# EAGLE library part L202121MS02QE (library SHC)
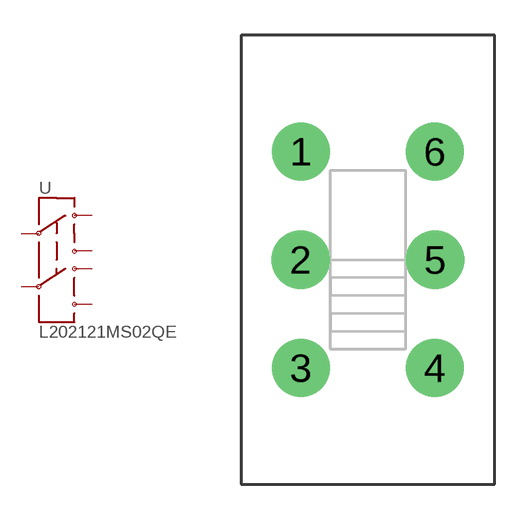
[diagram p48: symbol with the pads of L202-DPDT; footprint L202-DPDT]

Designator prefix -

## L202121MS02QE  [L202-DPDT]
1  O1
2  I1
3  O2
4  O4
5  I2
6  O3

## Footprint L202-DPDT (pad centres in mm)
drill 1.65: 1 -2.85,4.6; 2 -2.86,0; 3 -2.85,-4.6; 4 2.85,-4.6; 5 2.86,0; 6 2.85,4.6